# Altium footprint library CN_RJ45_TYCO_1-406541-1.PcbLib: 1 footprints
Each footprint in its own frame and in the unit in brackets; x right, y up, seen from the top. Pads: shape width x height; smd on the part's side, far side on the other; paste and mask are expansions set on the pad; w line width, h text height; cw(c..) or ccw(c..) is an arc to the next point about the centre after c.
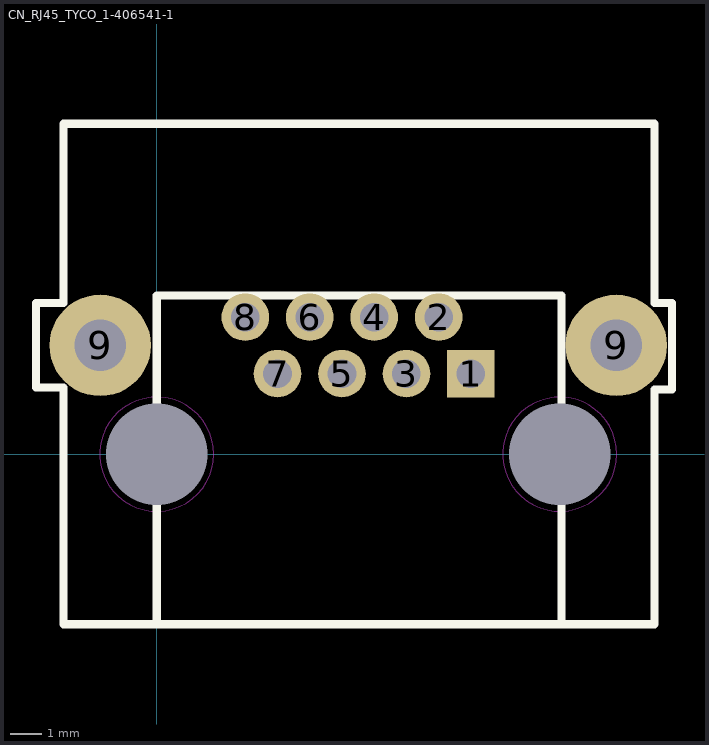
[diagram p0: the footprint, top view; thin cyan lines are the x and y axes]

## CN_RJ45_TYCO_1-406541-1 [mm] "CN_RJ45_TYCO_1-406541-1"
pads (12):
  rect 1.5x1.5 hole 0.9: 1(9.902,2.54)
  round 1.5 hole 0.9: 2(8.886,4.32) 3(7.87,2.54) 4(6.854,4.32) 5(5.838,2.54) 6(4.822,4.32) 7(3.806,2.54) 8(2.79,4.32)
  round 3.2 hole 1.63: 9(-1.78,3.43) 9(14.48,3.43)
  round 0 hole 3.2: " "(0,0) " "(12.7,0)
Top Overlay:
  lines w0.254: -2.946,4.763 -3.81,4.763 -3.81,2.095 -2.934,2.095 -2.934,-5.359 15.684,-5.359 15.684,1.778 15.684,2.045 16.231,2.045 16.243,2.045 16.243,4.763 15.684,4.763 15.684,10.414 -2.934,10.414 -2.934,4.763 ; 0,-5.359 0,5 12.75,5 12.75,-5.359
Multi-Layer keep-out:
  circle w0.025: c0,0 r1.8
  circle w0.025: c12.7,0 r1.8
3D body: height 14.6, standoff -4.12, extent -2.93,-5.321 15.71,10.427